# EAGLE library part LTV-826S (library ElegooMarsHeater)
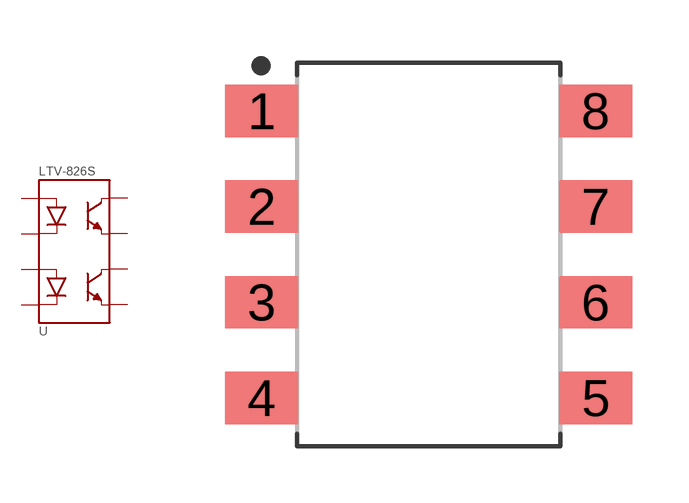
[diagram p1: symbol with the pads of SOP254P1000X350-8N; footprint SOP254P1000X350-8N]

Designator prefix -

## LTV-826SSOIC-8  [SOP254P1000X350-8N]
1  L1A
2  L1C
3  L2A
4  L2C
5  B2E
6  B2C
7  B1E
8  B1C

## Footprint SOP254P1000X350-8N (pad centres in mm)
8-SOP, 2.54 mm pitch, 10.00 mm span, 9.68 X 7.00 X 3.50 mm body 8-pin SOP package with 2.54 mm pitch, 10.00 mm span with body size 9.68 X 7.00 X 3.50 mm
smd 1.937 x 1.389: 1 -4.437,3.81; 2 -4.437,1.27; 3 -4.437,-1.27; 4 -4.437,-3.81; 5 4.437,-3.81; 6 4.437,-1.27; 7 4.437,1.27; 8 4.437,3.81